# Altium footprint library con-molex-micro-fit-3_0.PCBLIB: 194 footprints (part 13 of 13)
Each footprint in its own frame and in the unit in brackets; x right, y up, seen from the top. Pads: shape width x height; smd on the part's side, far side on the other; paste and mask are expansions set on the pad; w line width, h text height; cw(c..) or ccw(c..) is an arc to the next point about the centre after c.
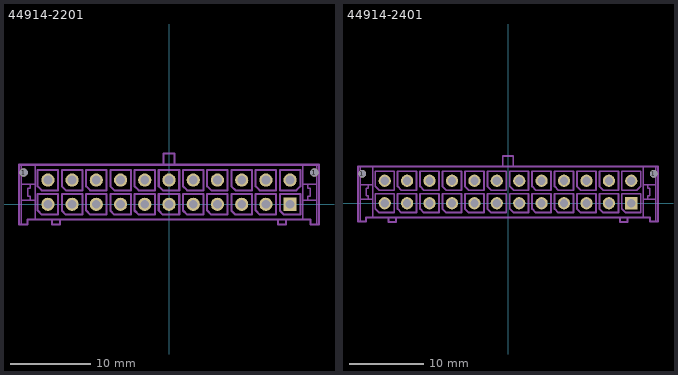
[diagram p12: the footprints below, top view; thin cyan lines are the x and y axes]

## 44914-2201 [mm]
pads (24):
  round 1.02 hole 1.02: 1(-18,3.94) 1(18,3.94)
  rect 1.635x1.635 hole 1.09: P$1(15,0)
  round 1.635 hole 1.09: P$2(12,0) P$3(9,0) P$4(6,0) P$5(3,0) P$6(0,0) P$7(-3,0) P$8(-6,0) P$9(-9,0) P$10(-12,0) P$11(-15,0) P$12(15,3) P$13(12,3) P$14(9,3) P$15(6,3) P$16(3,3) P$17(0,3) P$18(-3,3) P$19(-6,3) P$20(-9,3) P$21(-12,3) P$22(-15,3)
Mechanical 2:
  drawing of 166 lines, arcs and shapes, not listed
Mechanical 3:
  lines w0.254: 13.73,1.73 13.73,4.27 16.27,4.27 16.27,2.238 15.762,1.73 13.73,1.73

## 44914-2401 [mm]
pads (26):
  round 1.02 hole 1.02: 1(-19.5,3.94) 1(19.5,3.94)
  rect 1.635x1.635 hole 1.09: P$1(16.5,0)
  round 1.635 hole 1.09: P$2(13.5,0) P$3(10.5,0) P$4(7.5,0) P$5(4.5,0) P$6(1.5,0) P$7(-1.5,0) P$8(-4.5,0) P$9(-7.5,0) P$10(-10.5,0) P$11(-13.5,0) P$12(-16.5,0) P$13(16.5,3) P$14(13.5,3) P$15(10.5,3) P$16(7.5,3) P$17(4.5,3) P$18(1.5,3) P$19(-1.5,3) P$20(-4.5,3) P$21(-7.5,3) P$22(-10.5,3) P$23(-13.5,3) P$24(-16.5,3)
Mechanical 2:
  drawing of 176 lines, arcs and shapes, not listed
Mechanical 3:
  lines w0.254: 15.23,1.73 15.23,4.27 17.77,4.27 17.77,2.238 17.262,1.73 15.23,1.73